# EAGLE library part PAN1321_MINIMAL (library PAN1321)
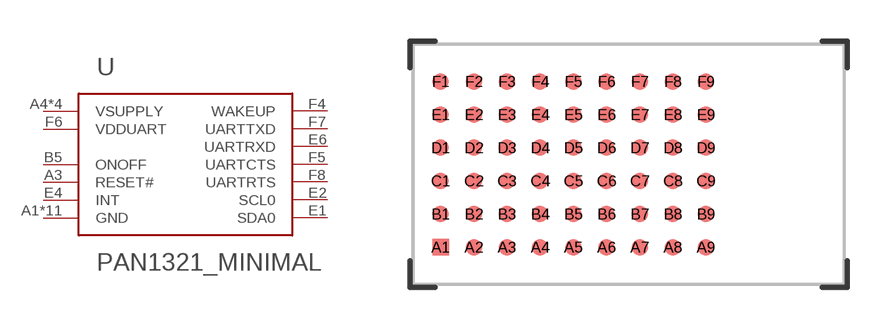
[diagram p1: symbol with the pads of PAN1321_FP; footprint PAN1321_FP]

Designator prefix -

## PAN1321_MINIMAL  [PAN1321_FP]
A1  GND
A3  RESET#
A4  VSUPPLY
A5  VSUPPLY
A6  VSUPPLY
A7  GND
A9  GND
B5  ONOFF
C5  VSUPPLY
C8  GND
C9  GND
D7  GND
D8  GND
E1  SDA0
E2  SCL0
E4  INT
E6  UARTRXD
E8  GND
E9  GND
F1  GND
F4  WAKEUP
F5  UARTCTS
F6  VDDUART
F7  UARTTXD
F8  UARTRTS
F9  GND

## Footprint PAN1321_FP (pad centres in mm)
smd 0.6 x 0.6: A1 -4.8,-3; A2 -3.6,-3; A3 -2.4,-3; A4 -1.2,-3; A5 0,-3; A6 1.2,-3; A7 2.4,-3; A8 3.6,-3; A9 4.8,-3; B1 -4.8,-1.8; B2 -3.6,-1.8; B3 -2.4,-1.8; B4 -1.2,-1.8; B5 0,-1.8; B6 1.2,-1.8; B7 2.4,-1.8; B8 3.6,-1.8; B9 4.8,-1.8; C1 -4.8,-0.6; C2 -3.6,-0.6; C3 -2.4,-0.6; C4 -1.2,-0.6; C5 0,-0.6; C6 1.2,-0.6; C7 2.4,-0.6; C8 3.6,-0.6; C9 4.8,-0.6; D1 -4.8,0.6; D2 -3.6,0.6; D3 -2.4,0.6; D4 -1.2,0.6; D5 0,0.6; D6 1.2,0.6; D7 2.4,0.6; D8 3.6,0.6; D9 4.8,0.6; E1 -4.8,1.8; E2 -3.6,1.8; E3 -2.4,1.8; E4 -1.2,1.8; E5 0,1.8; E6 1.2,1.8; E7 2.4,1.8; E8 3.6,1.8; E9 4.8,1.8; F1 -4.8,3; F2 -3.6,3; F3 -2.4,3; F4 -1.2,3; F5 0,3; F6 1.2,3; F7 2.4,3; F8 3.6,3; F9 4.8,3